# Altium schematic symbol library ST3232ECTR(串口).SchLib: 1 symbol
Pins are listed as number, name and electrical type; pins without a type are passive.

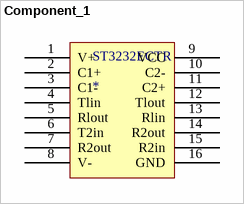
[diagram p0: symbol Component_1]

## Component_1
designator ST3232ECTR
pins: 1 V+, 2 C1+, 3 C1-, 4 Tlin, 5 Rlout, 6 T2in, 7 R2out, 8 V-, 9 VCC, 10 C2-, 11 C2+, 12 Tlout, 13 Rlin, 14 R2out, 15 R2in, 16 GND